# EAGLE library part 25AA1024X-X/SM (library 25AA1024 SOIJ_8 - PATRON RECOMENDADO)
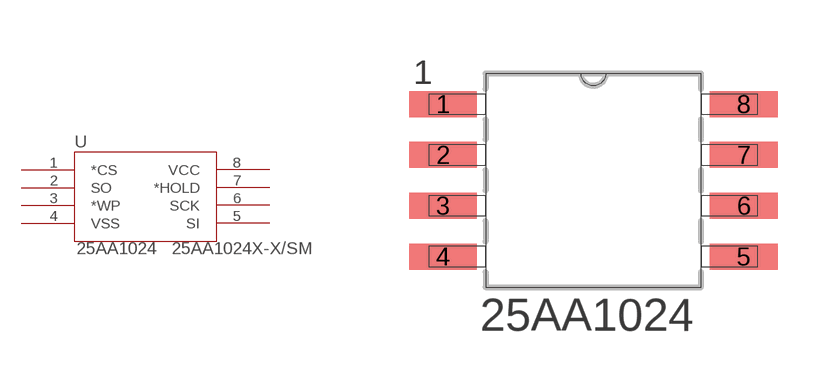
[diagram p0: symbol with the pads of SOIJ8-M_MC; footprint SOIJ8-M_MC]

Designator prefix -

## 25AA1024X-X/SM  [SOIJ8-M_MC]
1  *CS  in
2  SO  out
3  *WP  in
4  VSS  pwr
5  SI  in
6  SCK  in
7  *HOLD  in
8  VCC  pwr

## Footprint SOIJ8-M_MC (pad centres in mm)
smd 1.7 x 0.65: 1 -3.759,1.905; 2 -3.759,0.635; 3 -3.759,-0.635; 4 -3.759,-1.905; 5 3.759,-1.905; 6 3.759,-0.635; 7 3.759,0.635; 8 3.759,1.905